# Altium integrated library Y200-ABS07-166-32.768KHZ-T.IntLib: 1 symbol
Pins are listed as number, name and electrical type; pins without a type are passive.

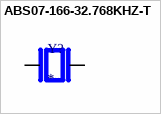
[diagram p0: symbol ABS07-166-32.768KHZ-T]

## ABS07-166-32.768KHZ-T
designator Y?
32.768 kHz Â±10ppm Crystal 7pF 70 kOhms 2-SMD, No Lead; MF: Abracon LLC; MP: ABS07-166-32.768KHZ-T; Value: *; SnapEDA_Link: https://www.snapeda.com/parts/ABS07-166-32.768KHZ-T/Abracon+LLC/view-part/?ref=snap; Availability: In Stock; Price: None; Check_prices: https://www.snapeda.com/parts/ABS07-166-32.768KHZ-T/Abracon+LLC/view-part/?ref=eda; Purchase-URL: https://pricing.snapeda.com/search/part/ABS07-166-32.768KHZ-T/?ref=eda; Package: SMD-2 Abracon LLC
footprint XTAL_ABS07-166-32.768KHZ-T
pins: 1, 2